# EAGLE library part LTM2881MPY-3 (library IC)
DGTL ISO 2.5KV RS422/RS485 32BGA Manufacturer's datasheet <https://www.analog.com/media/en/technical-documentation/data-sheets/2881fj.pdf>
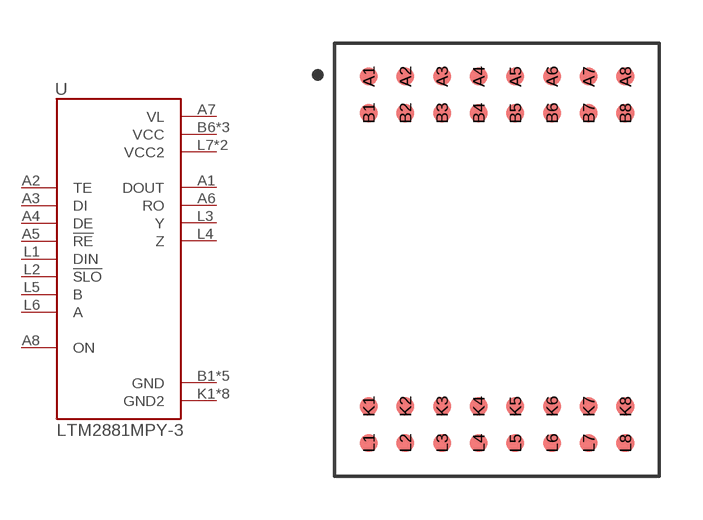
[diagram p30: symbol with the pads of 32-BGA; footprint 32-BGA]

Designator prefix U

## LTM2881MPY-3 (CREATED_BY: PCBLayout.com; DIGIKEY_PN: LTM2881MPY-3-ND; MANUFACTURER: Linear Technology/Analog Devices; MPN: LTM2881MPY-3; PACKAGE: 32-BGA)  [32-BGA]
A1  DOUT  out
A2  TE  in
A3  DI  in
A4  DE  in
A5  !RE  in
A6  RO  out
A7  VL  pwr
A8  ON
B1  GND  pwr
B2  GND  pwr
B3  GND  pwr
B4  GND  pwr
B5  GND  pwr
B6  VCC  pwr
B7  VCC  pwr
B8  VCC  pwr
K1  GND2  pwr
K2  GND2  pwr
K3  GND2  pwr
K4  GND2  pwr
K5  GND2  pwr
K6  GND2  pwr
K7  GND2  pwr
K8  GND2  pwr
L1  DIN  in
L2  !SLO  in
L3  Y  out
L4  Z  out
L5  B  in
L6  A  in
L7  VCC2  pwr
L8  VCC2  pwr

## Footprint 32-BGA (pad centres in mm)
smd 0.63 x 0.63: A1 -4.445,6.35; A2 -3.175,6.35; A3 -1.905,6.35; A4 -0.635,6.35; A5 0.635,6.35; A6 1.905,6.35; A7 3.175,6.35; A8 4.445,6.35; B1 -4.445,5.08; B2 -3.175,5.08; B3 -1.905,5.08; B4 -0.635,5.08; B5 0.635,5.08; B6 1.905,5.08; B7 3.175,5.08; B8 4.445,5.08; K1 -4.445,-5.08; K2 -3.175,-5.08; K3 -1.905,-5.08; K4 -0.635,-5.08; K5 0.635,-5.08; K6 1.905,-5.08; K7 3.175,-5.08; K8 4.445,-5.08; L1 -4.445,-6.35; L2 -3.175,-6.35; L3 -1.905,-6.35; L4 -0.635,-6.35; L5 0.635,-6.35; L6 1.905,-6.35; L7 3.175,-6.35; L8 4.445,-6.35